# Altium schematic symbol library TLV3201.SchLib: 1 symbol
Pins are listed as number, name and electrical type; pins without a type are passive.

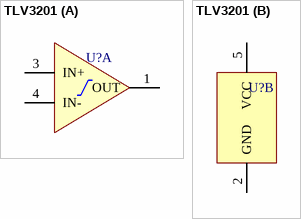
[diagram p0: symbol TLV3201]

## TLV3201
designator U?
part A pins: 1 OUT, 3 IN+, 4 IN-
part B pins: 2 GND, 5 VCC